# Altium schematic symbol library power_cap.SchLib: 1 symbol
Pins are listed as number, name and electrical type; pins without a type are passive.

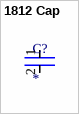
[diagram p0: symbol 1812 Cap]

## 1812 Cap
designator C?
footprint FP-C1812C104KDRACTU-IPC_A
pins: 1, 2